# EAGLE library part LPC4088_QUICKSTART_BOARD_REV-A (library LPC4088_QuickStart_Board)
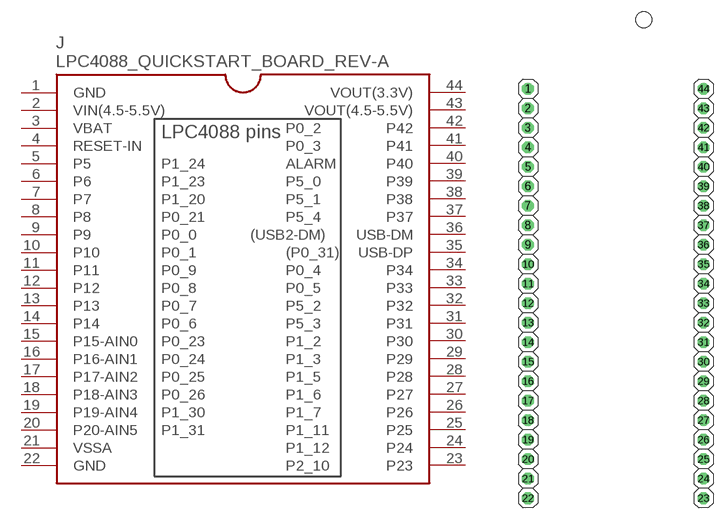
[diagram p0: symbol with the pads of LPC4088_QUICKSTART_BOARD_REV-A; footprint LPC4088_QUICKSTART_BOARD_REV-A]

Designator prefix J

## LPC4088_QUICKSTART_BOARD_REV-A  [LPC4088_QUICKSTART_BOARD_REV-A]
1  GND  pas
2  VIN(4.5-5.5V)  pas
3  VBAT  pas
4  RESET-IN  pas
5  P5  pas
6  P6  pas
7  P7  pas
8  P8  pas
9  P9  pas
10  P10  pas
11  P11  pas
12  P12  pas
13  P13  pas
14  P14  pas
15  P15-AIN0  pas
16  P16-AIN1  pas
17  P17-AIN2  pas
18  P18-AIN3  pas
19  P19-AIN4  pas
20  P20-AIN5  pas
21  VSSA  pas
22  GND  pas
23  P23  pas
24  P24  pas
25  P25  pas
26  P26  pas
27  P27  pas
28  P28  pas
29  P29  pas
30  P30  pas
31  P31  pas
32  P32  pas
33  P33  pas
34  P34  pas
35  USB-DP  pas
36  USB-DM  pas
37  P37  pas
38  P38  pas
39  P39  pas
40  P40  pas
41  P41  pas
42  P42  pas
43  VOUT(4.5-5.5V)  pas
44  VOUT(3.3V)  pas

## Footprint LPC4088_QUICKSTART_BOARD_REV-A (pad centres in mm)
drill 1 octagon: 1 -11.43,24.13; 2 -11.43,21.59; 3 -11.43,19.05; 4 -11.43,16.51; 5 -11.43,13.97; 6 -11.43,11.43; 7 -11.43,8.89; 8 -11.43,6.35; 9 -11.43,3.81; 10 -11.43,1.27; 11 -11.43,-1.27; 12 -11.43,-3.81; 13 -11.43,-6.35; 14 -11.43,-8.89; 15 -11.43,-11.43; 16 -11.43,-13.97; 17 -11.43,-16.51; 18 -11.43,-19.05; 19 -11.43,-21.59; 20 -11.43,-24.13; 21 -11.43,-26.67; 22 -11.43,-29.21; 23 11.43,-29.21; 24 11.43,-26.67; 25 11.43,-24.13; 26 11.43,-21.59; 27 11.43,-19.05; 28 11.43,-16.51; 29 11.43,-13.97; 30 11.43,-11.43; 31 11.43,-8.89; 32 11.43,-6.35; 33 11.43,-3.81; 34 11.43,-1.27; 35 11.43,1.27; 36 11.43,3.81; 37 11.43,6.35; 38 11.43,8.89; 39 11.43,11.43; 40 11.43,13.97; 41 11.43,16.51; 42 11.43,19.05; 43 11.43,21.59; 44 11.43,24.13
hole 2.1 at 3.683,33.147